# EAGLE library part XR-1016D (library EW_Capacitors)
Seventh order switched capacitor FILTER
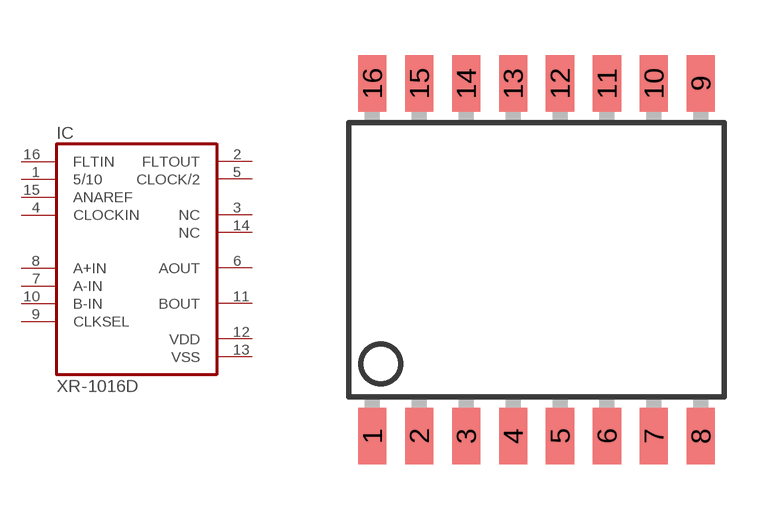
[diagram p1: symbol with the pads of SO-16LD; footprint SO-16LD]

Designator prefix IC

## XR-1016D (OC_FARNELL: unknown; OC_NEWARK: unknown)  [SO-16LD]
1  5/10  in
2  FLTOUT  out
3  NC  nc
4  CLOCKIN  in
5  CLOCK/2  out
6  AOUT  out
7  A-IN  in
8  A+IN  in
9  CLKSEL  in
10  B-IN  in
11  BOUT  out
12  VDD  pwr
13  VSS  pwr
14  NC  nc
15  ANAREF  in
16  FLTIN  in

## Footprint SO-16LD (pad centres in mm)
Small Outline Package
smd 0.762 x 1.524: 1 -4.445,-4.775; 2 -3.175,-4.775; 3 -1.905,-4.775; 4 -0.635,-4.775; 5 0.635,-4.775; 6 1.905,-4.775; 7 3.175,-4.775; 8 4.445,-4.775; 9 4.445,4.775; 10 3.175,4.775; 11 1.905,4.775; 12 0.635,4.775; 13 -0.635,4.775; 14 -1.905,4.775; 15 -3.175,4.775; 16 -4.445,4.775